# Altium integrated library Converter.IntLib: 33 symbols
Pins are listed as number, name and electrical type; pins without a type are passive.

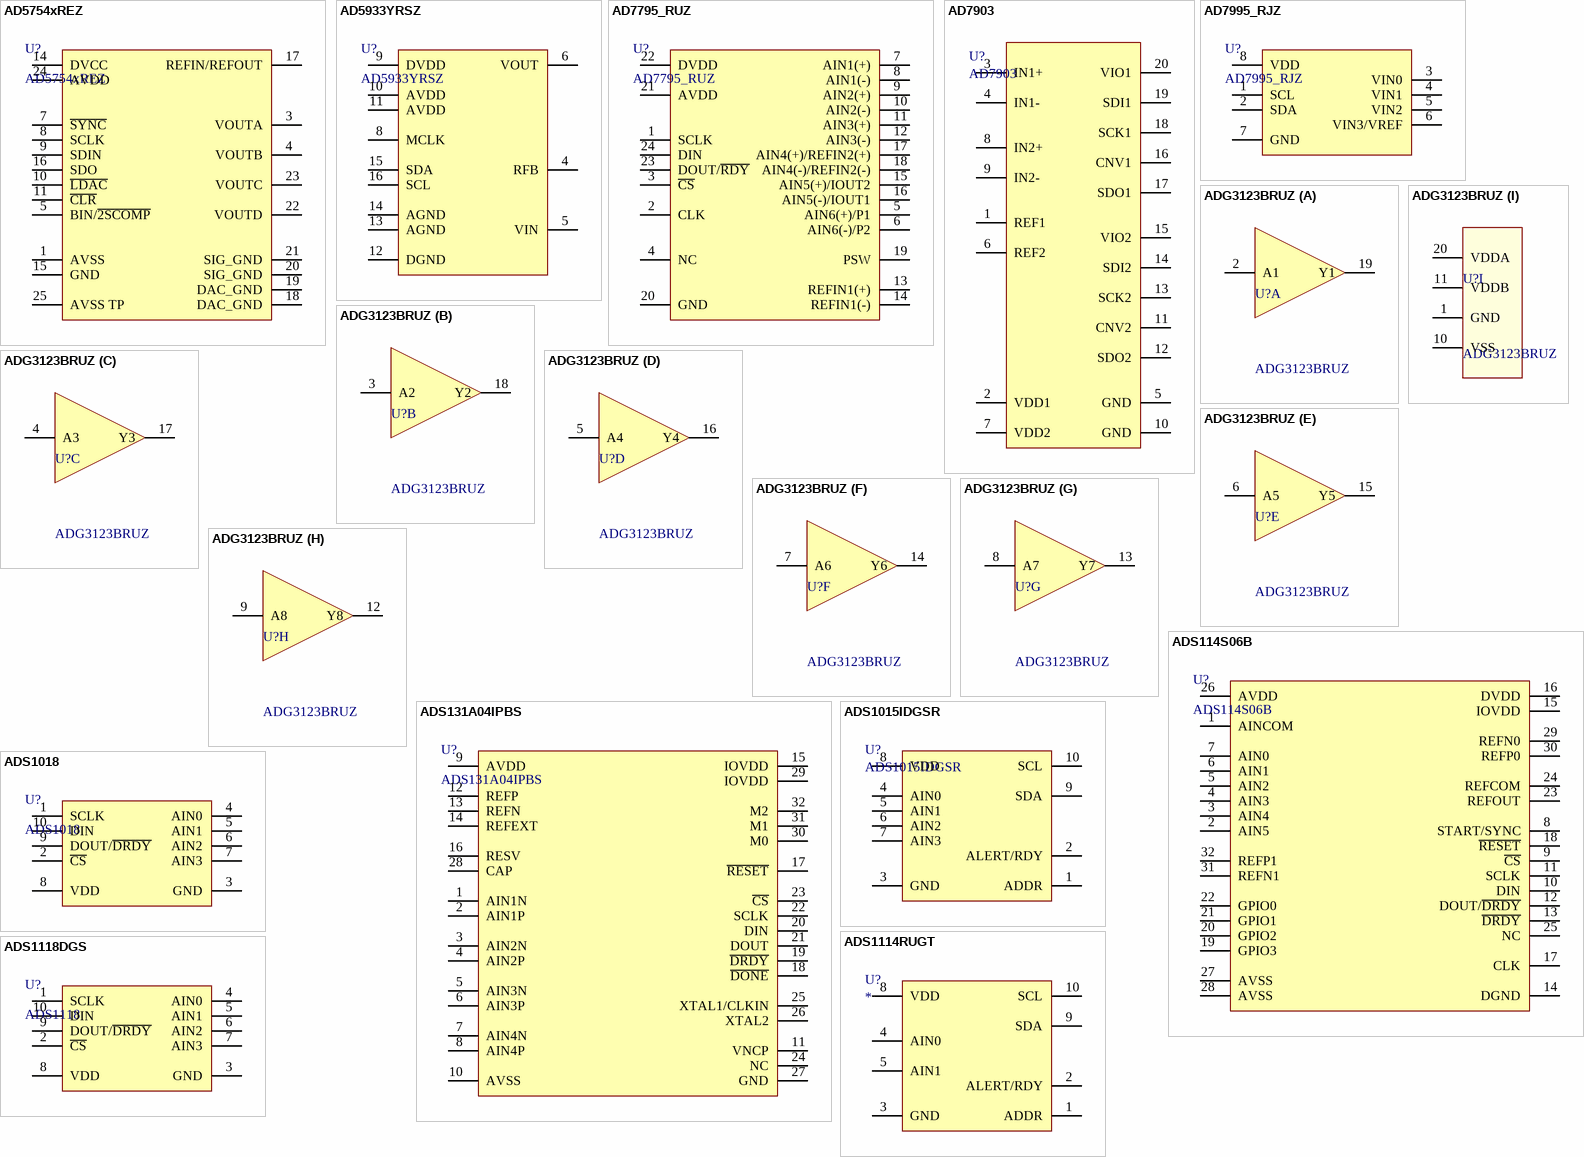
[diagram p0: symbols AD5754xREZ to ADS1118DGS]

## AD5754xREZ
designator U?
Complete, Quad, 12-/14-/16-Bit, Serial Input, Unipolar/Bipolar Voltage Output DACs; Value: AD5754xREZ
footprint TSSOP24 EP P0.65 T3.2x5.0 C4.4x7.8 H1.2 (TSOP, 24-Leads, Body 7.80x4.40mm, Pitch 0.65mm, Thermal Pad 5.00x3.20mm, IPC Medium Density)
pins: 1 AVSS "Serial Clock Input. This serial clock input is for data transfers to and from the ADC. The SCLK has a Schmitttriggered input, making the interface suitable for opto-isolated applications. The serial clock can be continuous (See Datasheet)", 2 NC hidden "Clock In/Clock Out. The internal clock can be made available at this pin. Alternatively, the internal clock can be disabled, and the ADC can be driven by an external clock. This allows several ADCs to be driven from a common (See Datasheet)", 3 VOUTA "No Connect.", 4 VOUTB "No Connect.", 5 BIN/~{2SCOMP} "Chip Select Input. This is an active low logic input used to select the ADC. C\S\ can be used to select the ADC in systems with more than one device on the serial bus or as a frame synchronization signal in communicating (See Datasheet)", 6 NC hidden "Clock In/Clock Out. The internal clock can be made available at this pin. Alternatively, the internal clock can be disabled, and the ADC can be driven by an external clock. This allows several ADCs to be driven from a common (See Datasheet)", 7 ~{SYNC} "Chip Select Input. This is an active low logic input used to select the ADC. C\S\ can be used to select the ADC in systems with more than one device on the serial bus or as a frame synchronization signal in communicating (See Datasheet)", 8 SCLK "Analog Input. AIN1(-) is the negative terminal of the differential analog input pair, AIN1(+)/AIN1(-).", 9 SDIN "Analog Input. AIN2(+) is the positive terminal of the differential analog input pair, AIN2(+)/AIN2(-).", 10 ~{LDAC} "Chip Select Input. This is an active low logic input used to select the ADC. C\S\ can be used to select the ADC in systems with more than one device on the serial bus or as a frame synchronization signal in communicating (See Datasheet)", 11 ~{CLR} "Chip Select Input. This is an active low logic input used to select the ADC. C\S\ can be used to select the ADC in systems with more than one device on the serial bus or as a frame synchronization signal in communicating (See Datasheet)", 12 NC hidden "Clock In/Clock Out. The internal clock can be made available at this pin. Alternatively, the internal clock can be disabled, and the ADC can be driven by an external clock. This allows several ADCs to be driven from a common (See Datasheet)", 13 NC hidden "Clock In/Clock Out. The internal clock can be made available at this pin. Alternatively, the internal clock can be disabled, and the ADC can be driven by an external clock. This allows several ADCs to be driven from a common (See Datasheet)", 14 DVCC "Clock In/Clock Out. The internal clock can be made available at this pin. Alternatively, the internal clock can be disabled, and the ADC can be driven by an external clock. This allows several ADCs to be driven from a common (See Datasheet)", 15 GND "Ground Reference Point.", 16 SDO "Analog Input/Output of Internal Excitation Current Source. AIN5(-) is the negative terminal of the differential analog input pair, AIN5(+)/AIN5(-). Alternatively, the internal excitation current source can be made available (See Datasheet)", 17 REFIN/REFOUT "Analog Input/Positive Reference Input. AIN4(+) is the positive terminal of the differential analog input pair AIN4(+)/AIN4(-). This pin also functions as a positive reference input for REFIN2. REFIN2(+) can lie anywhere (See Datasheet)", 18 DAC_GND "Analog Input/Negative Reference Input. AIN4(-) is the negative terminal of the differential analog input pair AIN4(+)/AIN4(-). This pin also functions as the negative reference input for REFIN2. This reference input can lie (See Datasheet)", 19 DAC_GND "Analog Input/Negative Reference Input. AIN4(-) is the negative terminal of the differential analog input pair AIN4(+)/AIN4(-). This pin also functions as the negative reference input for REFIN2. This reference input can lie (See Datasheet)", 20 SIG_GND "Supply Voltage, 2.7 V to 5.25 V.", 21 SIG_GND "Supply Voltage, 2.7 V to 5.25 V.", 22 VOUTD "Serial Interface Supply Voltage, 2.7 V to 5.25 V. DVDD is independent of AVDD. Therefore, the serial interface operates at 3 V with AVDD at 5 V or vice versa.", 23 VOUTC "Serial Data Output/Data Ready Output. DOUT/R\D\Y\ serves a dual purpose. It functions as a serial data output pin to access the output shift register of the ADC. The output shift register can contain data from any of the (See Datasheet)", 24 AVDD "Serial Data Input to the Input Shift Register on the ADC. Data in this shift register is transferred to the control registers within the ADC with the register selection bits of the communications register identifying the (See Datasheet)", 25 AVSS TP "Low-Side Power Switch to GND."

## AD5933YRSZ
designator U?
1 MSPS, 12-Bit Impedance  Converter, Network Analyzer; Value: AD5933YRSZ
footprint TSSOP16 P0.65 C5.6x6.2 H2.0 (SOP, 16-Leads, Body 6.05x5.30mm, Pitch 0.65mm, IPC Medium Density)
pins: 4 RFB "No Connect.", 5 VIN "Analog Input/Digital Output Pin. AIN6(+) is the positive terminal of the differential analog input pair, AIN6(+)/AIN6(-). This pin can also function as a general-purpose output bit referenced between AVDD and GND.", 6 VOUT "Analog Input/Digital Output Pin. AIN6(-) is the negative terminal of the differential analog input pair, AIN6(+)/AIN6(-). This pin can also function as a general-purpose output bit referenced between AVDD and GND.", 8 MCLK "Analog Input. AIN1(-) is the negative terminal of the differential analog input pair, AIN1(+)/AIN1(-).", 9 DVDD "Serial Interface Supply Voltage, 2.7 V to 5.25 V. DVDD is independent of AVDD. Therefore, the serial interface operates at 3 V with AVDD at 5 V or vice versa.", 10 AVDD "Supply Voltage, 2.7 V to 5.25 V.", 11 AVDD "Supply Voltage, 2.7 V to 5.25 V.", 12 DGND "Serial Clock Input. This serial clock input is for data transfers to and from the ADC. The SCLK has a Schmitttriggered input, making the interface suitable for opto-isolated applications. The serial clock can be continuous (See Datasheet)", 13 AGND "Serial Clock Input. This serial clock input is for data transfers to and from the ADC. The SCLK has a Schmitttriggered input, making the interface suitable for opto-isolated applications. The serial clock can be continuous (See Datasheet)", 14 AGND "Serial Clock Input. This serial clock input is for data transfers to and from the ADC. The SCLK has a Schmitttriggered input, making the interface suitable for opto-isolated applications. The serial clock can be continuous (See Datasheet)", 15 SDA "Serial Clock Input. This serial clock input is for data transfers to and from the ADC. The SCLK has a Schmitttriggered input, making the interface suitable for opto-isolated applications. The serial clock can be continuous (See Datasheet)", 16 SCL "Serial Clock Input. This serial clock input is for data transfers to and from the ADC. The SCLK has a Schmitttriggered input, making the interface suitable for opto-isolated applications. The serial clock can be continuous (See Datasheet)"

## AD7795_RUZ
designator U?
6-Channel, Low Noise, Low Power, 24-/16-Bit  Σ-Δ ADC; Value: AD7795_RUZ
footprint TSSOP24 P0.65 C4.4X7.8 H1.2 (TSOP, 24-Leads, Body 7.8x4.4mm, Pitch 0.65mm, IPC Medium Density)
pins: 1 SCLK "Serial Clock Input. This serial clock input is for data transfers to and from the ADC. The SCLK has a Schmitttriggered input, making the interface suitable for opto-isolated applications. The serial clock can be continuous (See Datasheet)", 2 CLK "Clock In/Clock Out. The internal clock can be made available at this pin. Alternatively, the internal clock can be disabled, and the ADC can be driven by an external clock. This allows several ADCs to be driven from a common (See Datasheet)", 3 ~{CS} "Chip Select Input. This is an active low logic input used to select the ADC. C\S\ can be used to select the ADC in systems with more than one device on the serial bus or as a frame synchronization signal in communicating (See Datasheet)", 4 NC "No Connect.", 5 AIN6(+)/P1 "Analog Input/Digital Output Pin. AIN6(+) is the positive terminal of the differential analog input pair, AIN6(+)/AIN6(-). This pin can also function as a general-purpose output bit referenced between AVDD and GND.", 6 AIN6(-)/P2 "Analog Input/Digital Output Pin. AIN6(-) is the negative terminal of the differential analog input pair, AIN6(+)/AIN6(-). This pin can also function as a general-purpose output bit referenced between AVDD and GND.", 7 AIN1(+) "Analog Input. AIN1(+) is the positive terminal of the differential analog input pair, AIN1(+)/AIN1(-).", 8 AIN1(-) "Analog Input. AIN1(-) is the negative terminal of the differential analog input pair, AIN1(+)/AIN1(-).", 9 AIN2(+) "Analog Input. AIN2(+) is the positive terminal of the differential analog input pair, AIN2(+)/AIN2(-).", 10 AIN2(-) "Analog Input. AIN2(-) is the negative terminal of the differential analog input pair, AIN2(+)/AIN2(-).", 11 AIN3(+) "Analog Input. AIN3(+) is the positive terminal of the differential analog input pair, AIN3(+)/AIN3(-).", 12 AIN3(-) "Analog Input. AIN3(-) is the negative terminal of the differential analog input pair, AIN3(+)/AIN3(-).", 13 REFIN1(+) "Positive Reference Input. An external reference can be applied between REFIN1(+) and REFIN1(-). REFIN1(+) can lie anywhere between AVDD and GND + 0.1 V. The nominal reference voltage, (REFIN1(+) - REFIN1(-)), is 2.5 V, but (See Datasheet)", 14 REFIN1(-) "Negative Reference Input. This reference input can lie anywhere between GND and AVDD - 0.1 V.", 15 AIN5(+)/IOUT2 "Analog Input/Output of Internal Excitation Current Source. AIN5(+) is the positive terminal of the differential analog input pair AIN5(+)/AIN5(-). Alternatively, the internal excitation current source can be made available (See Datasheet)", 16 AIN5(-)/IOUT1 "Analog Input/Output of Internal Excitation Current Source. AIN5(-) is the negative terminal of the differential analog input pair, AIN5(+)/AIN5(-). Alternatively, the internal excitation current source can be made available (See Datasheet)", 17 AIN4(+)/REFIN2(+) "Analog Input/Positive Reference Input. AIN4(+) is the positive terminal of the differential analog input pair AIN4(+)/AIN4(-). This pin also functions as a positive reference input for REFIN2. REFIN2(+) can lie anywhere (See Datasheet)", 18 AIN4(-)/REFIN2(-) "Analog Input/Negative Reference Input. AIN4(-) is the negative terminal of the differential analog input pair AIN4(+)/AIN4(-). This pin also functions as the negative reference input for REFIN2. This reference input can lie (See Datasheet)", 19 PSW "Low-Side Power Switch to GND.", 20 GND "Ground Reference Point.", 21 AVDD "Supply Voltage, 2.7 V to 5.25 V.", 22 DVDD "Serial Interface Supply Voltage, 2.7 V to 5.25 V. DVDD is independent of AVDD. Therefore, the serial interface operates at 3 V with AVDD at 5 V or vice versa.", 23 DOUT/~{RDY} "Serial Data Output/Data Ready Output. DOUT/R\D\Y\ serves a dual purpose. It functions as a serial data output pin to access the output shift register of the ADC. The output shift register can contain data from any of the (See Datasheet)", 24 DIN "Serial Data Input to the Input Shift Register on the ADC. Data in this shift register is transferred to the control registers within the ADC with the register selection bits of the communications register identifying the (See Datasheet)"

## AD7903
designator U?
Dual Differential 16-Bit, 1 MSPS  PulSAR ADC 12.0 mW in QSOP; Value: AD7903
footprint SO20 P0.635 C4.0X8.8 H1.75 (SOP, 20-Leads, Body 8.8x4.0mm, Pitch 0.635mm, IPC Medium Density)
pins: 1 REF1, 2 VDD1, 3 IN1+, 4 IN1-, 5 GND, 6 REF2, 7 VDD2, 8 IN2+, 9 IN2-, 10 GND, 11 CNV2, 12 SDO2, 13 SCK2, 14 SDI2, 15 VIO2, 16 CNV1, 17 SDO1, 18 SCK1, 19 SDI1, 20 VIO1

## AD7995_RJZ
designator U?
4-Channel, 12-/10-/8-Bit ADC; Value: AD7995_RJZ
footprint SOT23-8 P0.65 C1.6x3.0 H1.5 (SOT23, 8-Leads, Body 1.6x3.0mm, Pitch 0.65mm, IPC Medium Density)
pins: 1 SCL "Serial Clock Input. This serial clock input is for data transfers to and from the ADC. The SCLK has a Schmitttriggered input, making the interface suitable for opto-isolated applications. The serial clock can be continuous (See Datasheet)", 2 SDA "Clock In/Clock Out. The internal clock can be made available at this pin. Alternatively, the internal clock can be disabled, and the ADC can be driven by an external clock. This allows several ADCs to be driven from a common (See Datasheet)", 3 VIN0 "Chip Select Input. This is an active low logic input used to select the ADC. C\S\ can be used to select the ADC in systems with more than one device on the serial bus or as a frame synchronization signal in communicating (See Datasheet)", 4 VIN1 "No Connect.", 5 VIN2 "Analog Input/Digital Output Pin. AIN6(+) is the positive terminal of the differential analog input pair, AIN6(+)/AIN6(-). This pin can also function as a general-purpose output bit referenced between AVDD and GND.", 6 VIN3/VREF "Analog Input/Digital Output Pin. AIN6(-) is the negative terminal of the differential analog input pair, AIN6(+)/AIN6(-). This pin can also function as a general-purpose output bit referenced between AVDD and GND.", 7 GND "Ground Reference Point.", 8 VDD "Serial Interface Supply Voltage, 2.7 V to 5.25 V. DVDD is independent of AVDD. Therefore, the serial interface operates at 3 V with AVDD at 5 V or vice versa."

## ADG3123BRUZ
designator U?
8-Channel CMOS Logic to  High Voltage Level Translator; Value: ADG3123BRUZ
footprint TSSOP20 P0.65 C6.6X4.4 H1.2 (TSOP, 20-Leads, Body 6.60x4.40mm, Pitch 0.65mm, IPC Medium Density)
part A pins: 2 A1, 19 Y1
part B pins: 3 A2, 18 Y2
part C pins: 4 A3, 17 Y3
part D pins: 5 A4, 16 Y4
part E pins: 6 A5, 15 Y5
part F pins: 7 A6, 14 Y6
part G pins: 8 A7, 13 Y7
part H pins: 9 A8, 12 Y8
part I pins: 1 GND, 10 VSS, 11 VDDB, 20 VDDA

## ADS114S06B
designator U?
ADS114S0xB Low-Power, Low-Noise, Highly Integrated, 6- and 12-Channel, 4-kSPS, 16-Bit, Delta-Sigma ADC With PGA and Voltage Reference; Manufacturer: Texas Instruments; Value: ADS114S06B; Mouser No.: 595-ADS114S06BIPBS
footprint QFP32 P0.5 T7.0X7.0 C5.0X5.0 H1.2 (TSQFP, 32-Leads, Body 5.00x5.00mm, Pitch 0.50mm, IPC Medium Density)
pins: 1 AINCOM "Serial data input", 2 AIN5 "Chip select; active low", 3 AIN4 "Chip select; active low", 4 AIN3 "Chip select; active low", 5 AIN2 "Chip select; active low", 6 AIN1 "Chip select; active low", 7 AIN0 "Serial data out combined with data ready; active low", 8 START/SYNC "Ground", 9 ~{CS} "Ground", 10 DIN "Ground", 11 SCLK "Ground", 12 DOUT/~{DRDY} "Ground", 13 ~{DRDY} "Ground", 14 DGND "Ground", 15 IOVDD "Ground", 16 DVDD "Ground", 17 CLK "Ground", 18 ~{RESET} "Ground", 19 GPIO3 "Chip select; active low", 20 GPIO2 "Chip select; active low", 21 GPIO1 "Chip select; active low", 22 GPIO0 "Chip select; active low", 23 REFOUT "Differential channel 2: negative input or single-ended channel 4 input", 24 REFCOM "Differential channel 2: positive input or single-ended channel 3 input", 25 NC "Ground", 26 AVDD "Serial clock input", 27 AVSS "Power supply: 2.0 V to 5.5 V", 28 AVSS "Power supply: 2.0 V to 5.5 V", 29 REFN0 "Differential channel 1: positive input or single-ended channel 1 input", 30 REFP0 "Differential channel 1: negative input or single-ended channel 2 input", 31 REFN1 "Chip select; active low", 32 REFP1 "Chip select; active low"

## ADS131A04IPBS
designator U?
2- or 4-Channel, 24-Bit, 128-kSPS, Simultaneous-Sampling, Delta-Sigma ADC; Manufacturer: Texas Instruments; Value: ADS131A04IPBS; Mouser No.: 595-ADS131A04IPBS
footprint QFP32 P0.5 T7.0X7.0 C5.0X5.0 H1.2 (TSQFP, 32-Leads, Body 5.00x5.00mm, Pitch 0.50mm, IPC Medium Density)
pins: 1 AIN1N "Serial data input", 2 AIN1P "Chip select; active low", 3 AIN2N "Chip select; active low", 4 AIN2P "Chip select; active low", 5 AIN3N "Chip select; active low", 6 AIN3P "Chip select; active low", 7 AIN4N "Serial data out combined with data ready; active low", 8 AIN4P "Ground", 9 AVDD "Serial clock input", 10 AVSS "Power supply: 2.0 V to 5.5 V", 11 VNCP "Ground", 12 REFP "Ground", 13 REFN "Ground", 14 REFEXT "Ground", 15 IOVDD "Ground", 16 RESV "Ground", 17 ~{RESET} "Ground", 18 ~{DONE} "Ground", 19 ~{DRDY} "Chip select; active low", 20 DIN "Chip select; active low", 21 DOUT "Ground", 22 SCLK "Chip select; active low", 23 ~{CS} "Ground", 24 NC "Ground", 25 XTAL1/CLKIN "Differential channel 2: negative input or single-ended channel 4 input", 26 XTAL2 "Differential channel 2: positive input or single-ended channel 3 input", 27 GND "Power supply: 2.0 V to 5.5 V", 28 CAP "Chip select; active low", 29 IOVDD "Differential channel 1: positive input or single-ended channel 1 input", 30 M0 "Differential channel 1: negative input or single-ended channel 2 input", 31 M1 "Chip select; active low", 32 M2 "Chip select; active low"

## ADS1015IDGSR
designator U?
Ultra-Small, Low-Power, I2C-Compatible, 3.3-kSPS, 12-Bit ADCs; Value: ADS1015IDGSR
footprint VSSOP10 P0.5 C3.1X3.1 H1.1 (VSSOP, 10-Leads, Body 3.10x3.1mm, Pitch 0.5mm, Height 1.1)
pins: 1 ADDR, 2 ALERT/RDY, 3 GND, 4 AIN0, 5 AIN1, 6 AIN2, 7 AIN3, 8 VDD, 9 SDA, 10 SCL

## ADS1018
designator U?
Ultrasmall, Low-Power, SPI™-Compatible, 12-Bit,  Analog-to-Digital Converter; Value: ADS1018
footprint VSSOP10 P0.5 C3.1X3.1 H1.1
pins: 1 SCLK "Serial clock input", 2 ~{CS} "Chip select; active low", 3 GND "Ground", 4 AIN0 "Differential channel 1: positive input or single-ended channel 1 input", 5 AIN1 "Differential channel 1: negative input or single-ended channel 2 input", 6 AIN2 "Differential channel 2: positive input or single-ended channel 3 input", 7 AIN3 "Differential channel 2: negative input or single-ended channel 4 input", 8 VDD "Power supply: 2.0 V to 5.5 V", 9 DOUT/~{DRDY} "Serial data out combined with data ready; active low", 10 DIN "Serial data input"

## ADS1114RUGT
designator U?
Ultra-Small, Low-Power, 16-Bit  Analog-to-Digital Converter; Value: ADS1114RUGT
footprint QFN10 P0.5 C1.5X2.0 H0.4 (PQFN, 10-Leads, Body 1.50x2.00mm, Pitch 0.50mm, IPC High Density)
pins: 1 ADDR, 2 ALERT/RDY, 3 GND, 4 AIN0, 5 AIN1, 8 VDD, 9 SDA, 10 SCL

## ADS1118DGS
designator U?, comment ADS1118
ADS1118 Ultrasmall, Low-Power, SPI™-Compatible, 16-Bit / Analog-to-Digital Converter; Value: ADS1118
footprint VSSOP10 P0.5 C3.1X3.1 H1.1
pins: 1 SCLK "Serial clock input", 2 ~{CS} "Chip select; active low", 3 GND "Ground", 4 AIN0 "Differential channel 1: positive input or single-ended channel 1 input", 5 AIN1 "Differential channel 1: negative input or single-ended channel 2 input", 6 AIN2 "Differential channel 2: positive input or single-ended channel 3 input", 7 AIN3 "Differential channel 2: negative input or single-ended channel 4 input", 8 VDD "Power supply: 2.0 V to 5.5 V", 9 DOUT/~{DRDY} "Serial data out combined with data ready; active low", 10 DIN "Serial data input"

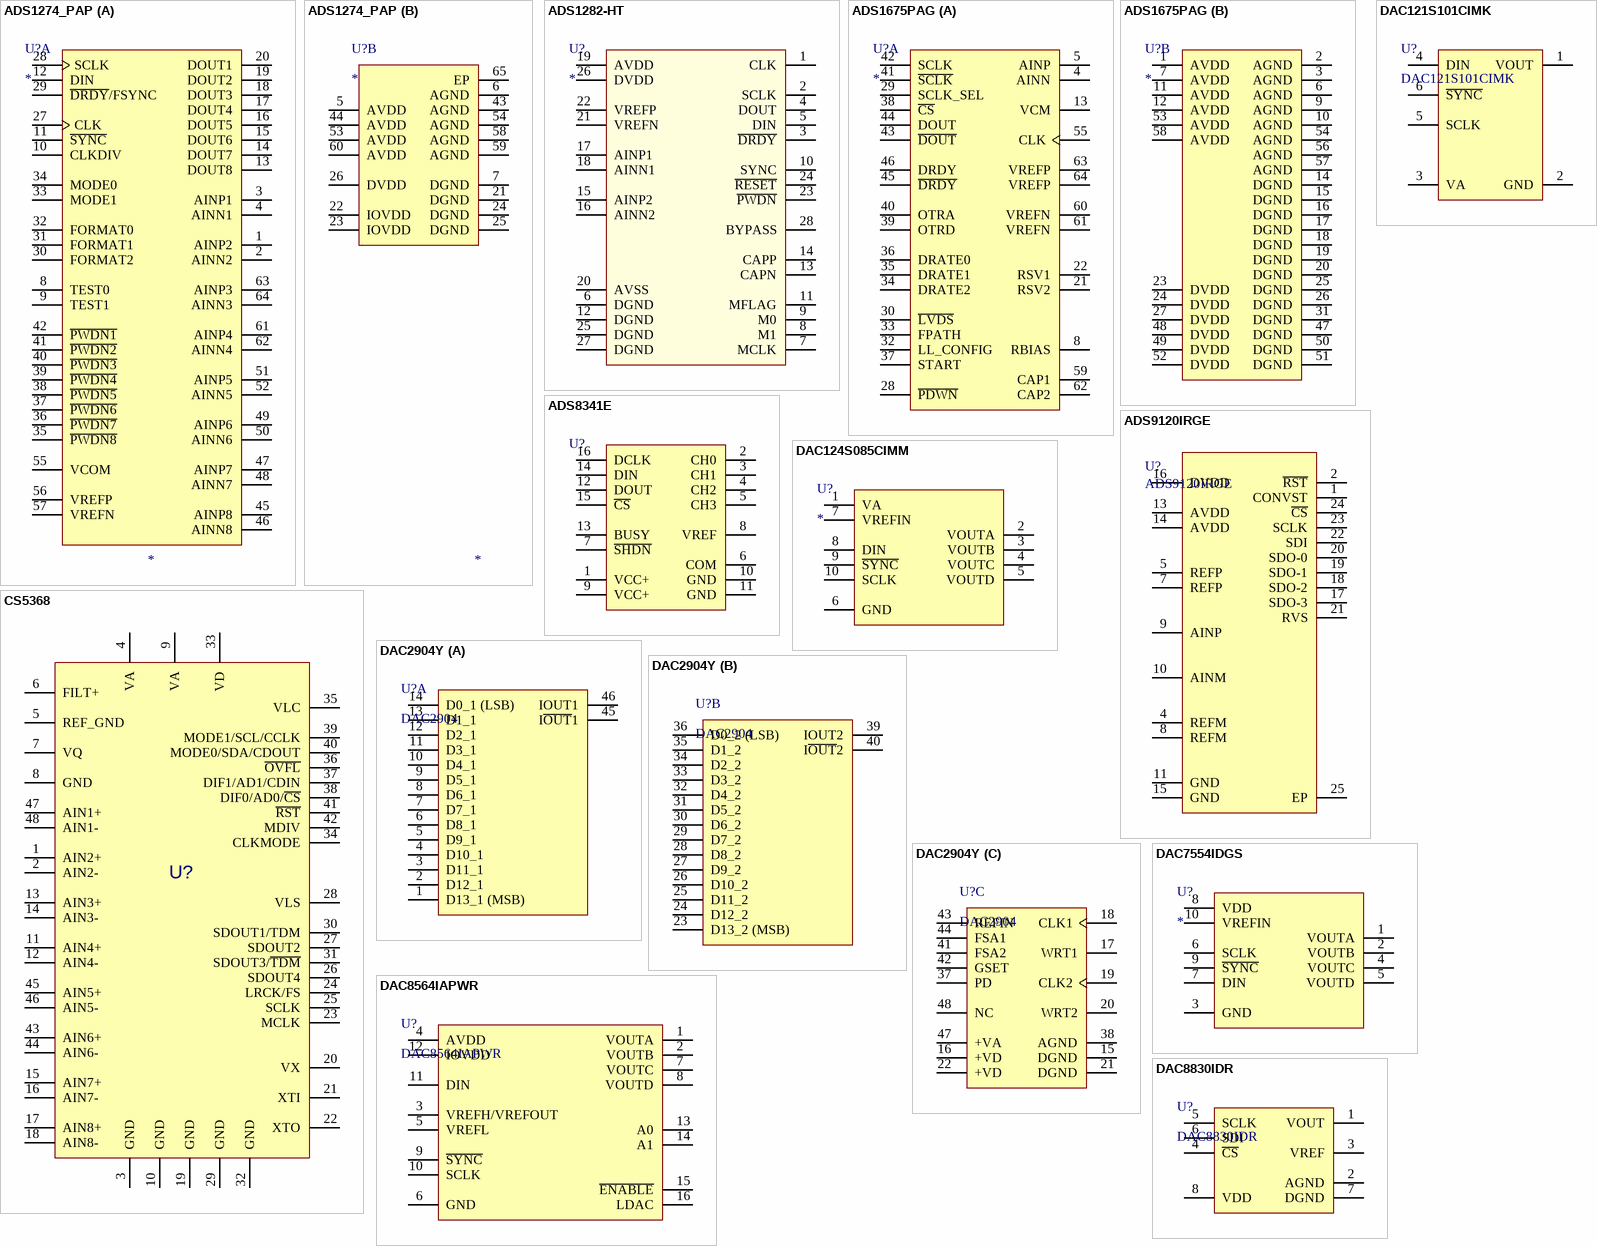
[diagram p1: symbols ADS1274_PAP to DAC8830IDR]

## ADS1274_PAP
designator U?
Quad/Octal, Simultaneous Sampling, 24-Bit Analog-to-Digital Converters; Value: *
footprint QFN64 P0.5 T7.0x7.0 C10x10 H1.2 (QFN, 64-Leads, Body 10.00x10.00mm, Pitch 0.50mm, Thermal Pad 7.00x7.00mm, IPC Low Density)
part A pins: 1 AINP2 "AINP[4:1] Positive analog input, channels 4 through 1.", 2 AINN2 "AINN[4:1] Negative analog input, channels 4 through 1.", 3 AINP1 "AINP[4:1] Positive analog input, channels 4 through 1.", 4 AINN1 "AINN[4:1] Negative analog input, channels 4 through 1.", 8 TEST0 "TEST[1:0] Test mode select: 00 = Normal operation 01 = Do not use 11 = Test mode 10 = Do not use", 9 TEST1 "TEST[1:0] Test mode select: 00 = Normal operation 01 = Do not use 11 = Test mode 10 = Do not use", 10 CLKDIV "CLK input divider control:1 = 37MHz (High-Speed mode)/otherwise 27MHz  0 = 13.5MHz (low-power)/5.4MHz (low-speed)", 11 ~{SYNC} "Synchronize input (all channels).", 12 DIN "Daisy-chain data input.", 13 DOUT8 "DOUT[8:5] Internally connected to active circuitry; outputs are driven.", 14 DOUT7 "DOUT[8:5] Internally connected to active circuitry; outputs are driven.", 15 DOUT6 "DOUT[8:5] Internally connected to active circuitry; outputs are driven.", 16 DOUT5 "DOUT[8:5] Internally connected to active circuitry; outputs are driven.", 17 DOUT4 "DOUT[4:1] Data output for channels 4 through 1.", 18 DOUT3 "DOUT[4:1] Data output for channels 4 through 1.", 19 DOUT2 "DOUT[4:1] Data output for channels 4 through 1.", 20 DOUT1 "DOUT[4:1] Data output for channels 4 through 1.", 27 CLK "Master clock input (fCLK).", 28 SCLK "Serial clock input, Modulator clock output", 29 ~{DRDY}/FSYNC "Frame-Sync protocol: frame clock input; SPI protocol: data ready output.", 30 FORMAT2 "FORMAT[2:0] Selects Frame-Sync/SPI protocol, TDM/discrete data outputs, fixed/dynamic position TDM data, and modulator mode/normal operating mode.", 31 FORMAT1 "FORMAT[2:0] Selects Frame-Sync/SPI protocol, TDM/discrete data outputs, fixed/dynamic position TDM data, and modulator mode/normal operating mode.", 32 FORMAT0 "FORMAT[2:0] Selects Frame-Sync/SPI protocol, TDM/discrete data outputs, fixed/dynamic position TDM data, and modulator mode/normal operating mode.", 33 MODE1 "MODE[1:0] Selects High-Speed, High-Resolution, Low-Power, or Low-Speed mode operation.", 34 MODE0 "MODE[1:0] Selects High-Speed, High-Resolution, Low-Power, or Low-Speed mode operation.", 35 ~{PWDN8} "P\W\D\N\[8:5] must = 0V", 36 ~{PWDN7} "P\W\D\N\[8:5] must = 0V", 37 ~{PWDN6} "P\W\D\N\[8:5] must = 0V", 38 ~{PWDN5} "P\W\D\N\[8:5] must = 0V", 39 ~{PWDN4} "P\W\D\N\[4:1] Power-down control for channels 4 through 1.", 40 ~{PWDN3} "P\W\D\N\[4:1] Power-down control for channels 4 through 1.", 41 ~{PWDN2} "P\W\D\N\[4:1] Power-down control for channels 4 through 1.", 42 ~{PWDN1} "P\W\D\N\[4:1] Power-down control for channels 4 through 1.", 45 AINP8 "AINP[8:5] Connected to internal ESD rails. The inputs may float", 46 AINN8 "AINN[8:5] Connected to internal ESD rails. The inputs may float", 47 AINP7 "AINP[8:5] Connected to internal ESD rails. The inputs may float", 48 AINN7 "AINN[8:5] Connected to internal ESD rails. The inputs may float", 49 AINP6 "AINP[8:5] Connected to internal ESD rails. The inputs may float", 50 AINN6 "AINN[8:5] Connected to internal ESD rails. The inputs may float", 51 AINP5 "AINP[8:5] Connected to internal ESD rails. The inputs may float", 52 AINN5 "AINN[8:5] Connected to internal ESD rails. The inputs may float", 55 VCOM "AVDD/2 Unbuffered voltage output.", 56 VREFP "Positive reference input.", 57 VREFN "Negative reference input.", 61 AINP4 "AINP[4:1] Positive analog input, channels 4 through 1.", 62 AINN4 "AINN[4:1] Negative analog input, channels 4 through 1.", 63 AINP3 "AINP[4:1] Positive analog input, channels 4 through 1.", 64 AINN3 "AINN[4:1] Negative analog input, channels 4 through 1."
part B pins: 5 AVDD "Analog power supply (4.75V to 5.25V).", 6 AGND "Analog ground; connect to DGND using a single plane.", 7 DGND "Digital ground power supply.", 21 DGND "Digital ground power supply.", 22 IOVDD "I/O power supply (+1.65V to +3.6V)", 23 IOVDD "I/O power supply (+1.65V to +3.6V)", 24 DGND "Digital ground power supply.", 25 DGND "Digital ground power supply.", 26 DVDD "Digital core power supply", 43 AGND "Analog ground; connect to DGND using a single plane.", 44 AVDD "Analog power supply (4.75V to 5.25V).", 53 AVDD "Analog power supply (4.75V to 5.25V).", 54 AGND "Analog ground; connect to DGND using a single plane.", 58 AGND "Analog ground; connect to DGND using a single plane.", 59 AGND "Analog ground; connect to DGND using a single plane.", 60 AVDD "Analog power supply (4.75V to 5.25V).", 65 EP

## ADS1282-HT
designator U?
High-Temperature High-Resolution Delta Sigma ADC; value: *
footprint TSSOP28 P0.65 C6.6x9.8 H1.2 (TSSOP28 P 0.65mm B 6.6x9.8mm H 1.2mm)
pins: 1 CLK, 2 SCLK, 3 ~{DRDY}, 4 DOUT, 5 DIN, 6 DGND, 7 MCLK, 8 M1, 9 M0, 10 SYNC, 11 MFLAG, 12 DGND, 13 CAPN, 14 CAPP, 15 AINP2, 16 AINN2, 17 AINP1, 18 AINN1, 19 AVDD, 20 AVSS, 21 VREFN, 22 VREFP, 23 ~{PWDN}, 24 ~{RESET}, 25 DGND, 26 DVDD, 27 DGND, 28 BYPASS

## ADS1675PAG
designator U?
4MSPS, 24-Bit Analog-to-Digital Converter; Value: *
footprint LQFP64 P0.5 C10.0x10.0 H1.6 (Thin QFP, 64-Leads, Body 10x10mm, Pitch 0.5mm, IPC Medium Density)
part A pins: 4 AINN "Negative analog input", 5 AINP "Positive analog input", 8 RBIAS "Analog bias setting resistor", 13 VCM "Terminal for external bypass capacitor connection to internal common-mode voltage", 21 RSV2 "Short pin to digital ground", 22 RSV1 "Short pin to digital supply", 28 ~{PDWN} "Power-down control, active low", 29 SCLK_SEL "Shift-clock source select. If SCLK_SEL = '0', then SCLK is internally generated. If SCLK_SEL = '1', then SCLK must be externally generated.", 30 ~{LVDS} "Serial interface select. If L\V\D\S\ = '0', then interface is LVDS-compatible. If L\V\D\S\ = '1', then interface is CMOS-compatible.", 32 LL_CONFIG "Configure Low-Latency digital filter. If LL_CONFIG = '0', then single-cycle settling is selected. If LL_CONFIG = '1', then fast-response is selected.", 33 FPATH "Digital filter path selection. If FPATH = '0', then path is Wide Bandwidth. If FPATH = '1', then path is Low-Latency.", 34 DRATE2 "Data rate selection", 35 DRATE1 "Data rate selection", 36 DRATE0 "Data rate selection", 37 START "Start convert, reset, and synchronization control input", 38 ~{CS} "Chip select; active low", 39 OTRD "Digital filter out-of-range indicator", 40 OTRA "Analog input out-of-range indicator", 41 ~{SCLK} "Negative shift clock output. If SCLK_SEL = '0', then S\C\L\K\ is the complementary shift clock output. If SCLK_SEL = '1', then S\C\L\K\ always output is 3-state.", 42 SCLK "Positive shift clock output. If SCLK_SEL = '0', then SCLK is an output. If SCLK_SEL = '1', then SCLK is an input.", 43 ~{DOUT} "Negative LVDS serial data output", 44 DOUT "Positive LVDS serial data output", 45 ~{DRDY} "Negative data ready output", 46 DRDY "Positive data ready output", 55 CLK "Master clock input", 59 CAP1 "Terminal for 1uF external bypass capacitor", 60 VREFN "Negative reference voltage. Short to analog ground", 61 VREFN "Negative reference voltage. Short to analog ground", 62 CAP2 "Terminal for 1uF external bypass capacitor", 63 VREFP "Positive reference voltage", 64 VREFP "Positive reference voltage"
part B pins: 1 AVDD "Analog supply", 2 AGND "Analog ground", 3 AGND "Analog ground", 6 AGND "Analog ground", 7 AVDD "Analog supply", 9 AGND "Analog ground", 10 AGND "Analog ground", 11 AVDD "Analog supply", 12 AVDD "Analog supply", 14 DGND "Digital ground", 15 DGND "Digital ground", 16 DGND "Digital ground", 17 DGND "Digital ground", 18 DGND "Digital ground", 19 DGND "Digital ground", 20 DGND "Digital ground", 23 DVDD "Digital supply", 24 DVDD "Digital supply", 25 DGND "Digital ground", 26 DGND "Digital ground", 27 DVDD "Digital supply", 31 DGND "Digital ground", 47 DGND "Digital ground", 48 DVDD "Digital supply", 49 DVDD "Digital supply", 50 DGND "Digital ground", 51 DGND "Digital ground", 52 DVDD "Digital supply", 53 AVDD "Analog supply", 54 AGND "Analog ground", 56 AGND "Analog ground", 57 AGND "Analog ground", 58 AVDD "Analog supply"

## ADS8341E
designator U?
16-bit sampling Analog-to-Digital converter (A/D) with a synchronous serial interface; Value: ADS8341E
footprint SSOP16 P0.635 C5.0x4.0 H1.8 (SSOP16 FTDI)
pins: 1 VCC+ "Power Supply, 2.7V to 5V", 2 CH0 "Analog Input Channel 0", 3 CH1 "Analog Input Channel 1", 4 CH2 "Analog Input Channel 2", 5 CH3 "Analog Input Channel 3", 6 COM "Ground Reference for Analog Inputs. Sets zero code voltage in single-ended mode. Connect this pin to ground or ground reference point.", 7 ~{SHDN} "Shutdown. When LOW, the device enters a very low power shutdown mode.", 8 VREF "Voltage Reference Input. See Electrical Characteristics Table for ranges.", 9 VCC+ "Power Supply, 2.7V to 5V", 10 GND "Ground. Connect to Analog Ground", 11 GND "Ground. Connect to Analog Ground.", 12 DOUT "Serial Data Output. Data is shifted on the falling edge of DCLK. This output is high impedance when C\S\ is HIGH.", 13 BUSY "Busy Output. This output is high impedance when C\S\ is HIGH.", 14 DIN "Serial Data Input. If C\S\ is LOW, data is latched on rising edge of DCLK.", 15 ~{CS} "Chip Select Input. Controls conversion timing and enables the serial input/output register.", 16 DCLK "External Clock Input. This clock runs the SAR conversion process and synchronizes serial data I/O. Maximum input clock frequency equals 2.4MHz to achieve 100kHz sampling rate."

## ADS9120IRGE
designator U?
Dual Differential 16-Bit, 1 MSPS  PulSAR ADC 12.0 mW in QSOP; Value: ADS9120IRGE
footprint QFN24 P0.5 T2.45X2.45 C4.0X4.0 H1.0 (QFN, 24-Leads, Body 4x4mm, Pitch 0.5mm, Thermal Pad 2.45x2.45mm, TI Recommended)
pins: 1 CONVST, 2 ~{RST}, 4 REFM, 5 REFP, 7 REFP, 8 REFM, 9 AINP, 10 AINM, 11 GND, 13 AVDD, 14 AVDD, 15 GND, 16 DVDD, 17 SDO-3, 18 SDO-2, 19 SDO-1, 20 SDO-0, 21 RVS, 22 SDI, 23 SCLK, 24 ~{CS}, 25 EP

## CS5368
designator U?  (value not drawn)
8-Channel A/D Converter; Value: CS5368
footprint LQFP48 P0.5 C7.0X7.0 H1.6 (TSQFP, 48-Leads, Body 7.00x7.00mm, Pitch 0.50mm, IPC Medium Density)
pins: 1 AIN2+, 2 AIN2-, 3 GND, 4 VA, 5 REF_GND, 6 FILT+, 7 VQ, 8 GND, 9 VA, 10 GND, 11 AIN4+, 12 AIN4-, 13 AIN3+, 14 AIN3-, 15 AIN7+, 16 AIN7-, 17 AIN8+, 18 AIN8-, 19 GND, 20 VX, 21 XTI, 22 XTO, 23 MCLK, 24 LRCK/FS, 25 SCLK, 26 SDOUT4, 27 SDOUT2, 28 VLS, 29 GND, 30 SDOUT1/TDM, 31 SDOUT3/~{TDM}, 32 GND, 33 VD, 34 CLKMODE, 35 VLC, 36 ~{OVFL}, 37 DIF1/AD1/CDIN, 38 DIF0/AD0/~{CS}, 39 MODE1/SCL/CCLK, 40 MODE0/SDA/CDOUT, 41 ~{RST}, 42 MDIV, 43 AIN6+, 44 AIN6-, 45 AIN5+, 46 AIN5-, 47 AIN1+, 48 AIN1-

## DAC121S101CIMK
designator U?
12-Bit Micro Power, RRO Digital-to-Analog Converter; Value: DAC121S101CIMK
footprint SOT23-6 P0.95 C1.5x3.0 H1.3 (SOT23, 6-Leads, Body 1.6x3.0mm, Pitch 0.95mm, IPC Medium Density)
pins: 1 VOUT, 2 GND, 3 VA, 4 DIN, 5 SCLK, 6 ~{SYNC}

## DAC124S085CIMM
designator U?
DAC124S085 12-Bit Micro Power Quad Digital-to-Analog Converter With Rail-to-Rail Output; Value: *
footprint VSSOP10 P0.5 C3.1X3.1 H1.1
pins: 1 VA "Serial Clock Input. This serial clock input is for data transfers to and from the ADC. The SCLK has a Schmitttriggered input, making the interface suitable for opto-isolated applications. The serial clock can be continuous (See Datasheet)", 2 VOUTA "Clock In/Clock Out. The internal clock can be made available at this pin. Alternatively, the internal clock can be disabled, and the ADC can be driven by an external clock. This allows several ADCs to be driven from a common (See Datasheet)", 3 VOUTB "Clock In/Clock Out. The internal clock can be made available at this pin. Alternatively, the internal clock can be disabled, and the ADC can be driven by an external clock. This allows several ADCs to be driven from a common (See Datasheet)", 4 VOUTC "Clock In/Clock Out. The internal clock can be made available at this pin. Alternatively, the internal clock can be disabled, and the ADC can be driven by an external clock. This allows several ADCs to be driven from a common (See Datasheet)", 5 VOUTD "Clock In/Clock Out. The internal clock can be made available at this pin. Alternatively, the internal clock can be disabled, and the ADC can be driven by an external clock. This allows several ADCs to be driven from a common (See Datasheet)", 6 GND "Analog Input/Digital Output Pin. AIN6(-) is the negative terminal of the differential analog input pair, AIN6(+)/AIN6(-). This pin can also function as a general-purpose output bit referenced between AVDD and GND.", 7 VREFIN "Analog Input/Digital Output Pin. AIN6(+) is the positive terminal of the differential analog input pair, AIN6(+)/AIN6(-). This pin can also function as a general-purpose output bit referenced between AVDD and GND.", 8 DIN "Serial Interface Supply Voltage, 2.7 V to 5.25 V. DVDD is independent of AVDD. Therefore, the serial interface operates at 3 V with AVDD at 5 V or vice versa.", 9 ~{SYNC} "No Connect.", 10 SCLK "Chip Select Input. This is an active low logic input used to select the ADC. C\S\ can be used to select the ADC in systems with more than one device on the serial bus or as a frame synchronization signal in communicating (See Datasheet)"

## DAC2904Y
designator U?, comment DAC2904
Dual, 14-Bit, 125MSPS  DIGITAL-TO-ANALOG CONVERTER; Value: DAC2904
footprint LQFP48 P0.5 C7.0X7.0 H1.6 (TSQFP, 48-Leads, Body 7.00x7.00mm, Pitch 0.50mm, IPC Medium Density)
part A pins: 1 D13_1 (MSB) "Data Port DAC1, data bit 13 (MSB).", 2 D12_1 "Data Port DAC1, data bit 12.", 3 D11_1 "Data Port DAC1, data bit 11.", 4 D10_1 "Data Port DAC1, data bit 10.", 5 D9_1 "Data Port DAC1, data bit 9.", 6 D8_1 "Data Port DAC1, data bit 8.", 7 D7_1 "Data Port DAC1, data bit 7.", 8 D6_1 "Data Port DAC1, data bit6.", 9 D5_1 "Data Port DAC1, data bit 5.", 10 D4_1 "Data Port DAC1, data bit 4.", 11 D3_1 "Data Port DAC1, data bit 3.", 12 D2_1 "Data Port DAC1, data bit 2.", 13 D1_1 "Data Port DAC1, data bit 1.", 14 D0_1 (LSB) "Data Port DAC1, data bit 0 (LSB).", 45 I~{OUT}1 "Complementary current output DAC1. Full-scale with all bits of data port 1 low.", 46 IOUT1 "Current output DAC1. Full-scale with all bits of data port 1 high."
part B pins: 23 D13_2 (MSB) "Data Port DAC2, data bit 13 (MSB).", 24 D12_2 "Data Port DAC2, data bit 12.", 25 D11_2 "Data Port DAC2, data bit 11.", 26 D10_2 "Data Port DAC2, data bit 10.", 27 D9_2 "Data Port DAC2, data bit 9.", 28 D8_2 "Data Port DAC2, data bit 8.", 29 D7_2 "Data Port DAC2, data bit 7.", 30 D6_2 "Data Port DAC2, data bit6.", 31 D5_2 "Data Port DAC2, data bit 5.", 32 D4_2 "Data Port DAC2, data bit 4.", 33 D3_2 "Data Port DAC2, data bit 3.", 34 D2_2 "Data Port DAC2, data bit 2.", 35 D1_2 "Data Port DAC2, data bit 1.", 36 D0_2 (LSB) "Data Port DAC2, data bit 0 (LSB).", 39 IOUT2 "Current output DAC2. Full-scale with all bits of data port 2 high.", 40 I~{OUT}2 "Complementary current output DAC2. Full-scale with all bits of data port 2 low."
part C pins: 15 DGND "Digital ground", 16 +VD "Digital supply, +3.0V to +5.5V", 17 WRT1 "DAC1 Input latches write signal", 18 CLK1 "Clock input DAC1", 19 CLK2 "Clock input DAC2", 20 WRT2 "DAC2 Input latches write signal", 21 DGND "Digital ground", 22 +VD "Digital supply, +3.0V to +5.5V", 37 PD "Power-down function control input. H = DAC in power-down mode; L = DAC in normal operation (internal pull-down for default L).", 38 AGND "Analog ground", 41 FSA2 "Full-scale adjust, DAC2. Connect external RSET resistor.", 42 GSET "Gain-setting mode (H = one resistor, L = two resistors)", 43 REFIN "Internal reference voltage output; external reference voltage input. Bypass with 0.1uF capacitor to AGND for internal reference operation.", 44 FSA1 "Full-scale adjust, DAC1. Connect external RSET resistor.", 47 +VA "Analog supply, +3.0V to +5.5V", 48 NC "No connection"

## DAC7554IDGS
designator U?
DAC 12-BIT, QUAD, ULTRALOW GLITCH, VOLTAGE OUTPUT; Value: *
footprint VSSOP10 P0.5 C3.1X3.1 H1.1
pins: 1 VOUTA "Clock In/Clock Out. The internal clock can be made available at this pin. Alternatively, the internal clock can be disabled, and the ADC can be driven by an external clock. This allows several ADCs to be driven from a common (See Datasheet)", 2 VOUTB "Clock In/Clock Out. The internal clock can be made available at this pin. Alternatively, the internal clock can be disabled, and the ADC can be driven by an external clock. This allows several ADCs to be driven from a common (See Datasheet)", 3 GND "Analog Input/Digital Output Pin. AIN6(-) is the negative terminal of the differential analog input pair, AIN6(+)/AIN6(-). This pin can also function as a general-purpose output bit referenced between AVDD and GND.", 4 VOUTC "Clock In/Clock Out. The internal clock can be made available at this pin. Alternatively, the internal clock can be disabled, and the ADC can be driven by an external clock. This allows several ADCs to be driven from a common (See Datasheet)", 5 VOUTD "Clock In/Clock Out. The internal clock can be made available at this pin. Alternatively, the internal clock can be disabled, and the ADC can be driven by an external clock. This allows several ADCs to be driven from a common (See Datasheet)", 6 SCLK "Chip Select Input. This is an active low logic input used to select the ADC. C\S\ can be used to select the ADC in systems with more than one device on the serial bus or as a frame synchronization signal in communicating (See Datasheet)", 7 DIN "Serial Interface Supply Voltage, 2.7 V to 5.25 V. DVDD is independent of AVDD. Therefore, the serial interface operates at 3 V with AVDD at 5 V or vice versa.", 8 VDD "Serial Clock Input. This serial clock input is for data transfers to and from the ADC. The SCLK has a Schmitttriggered input, making the interface suitable for opto-isolated applications. The serial clock can be continuous (See Datasheet)", 9 ~{SYNC} "No Connect.", 10 VREFIN "Analog Input/Digital Output Pin. AIN6(+) is the positive terminal of the differential analog input pair, AIN6(+)/AIN6(-). This pin can also function as a general-purpose output bit referenced between AVDD and GND."

## DAC8564IAPWR
designator U?
DAC 12-BIT, QUAD, ULTRALOW GLITCH, VOLTAGE OUTPUT; Manufacturer: Texas Instruments; Value: DAC8564IAPWR; Mouser No.: 595-DAC8564IAPWR
footprint TSSOP16 P0.65 C5.0x4.5 H1.1 (TSSOP-16 NXP)
pins: 1 VOUTA "Clock In/Clock Out. The internal clock can be made available at this pin. Alternatively, the internal clock can be disabled, and the ADC can be driven by an external clock. This allows several ADCs to be driven from a common (See Datasheet)", 2 VOUTB "Clock In/Clock Out. The internal clock can be made available at this pin. Alternatively, the internal clock can be disabled, and the ADC can be driven by an external clock. This allows several ADCs to be driven from a common (See Datasheet)", 3 VREFH/VREFOUT "Analog Input/Digital Output Pin. AIN6(-) is the negative terminal of the differential analog input pair, AIN6(+)/AIN6(-). This pin can also function as a general-purpose output bit referenced between AVDD and GND.", 4 AVDD "Serial Clock Input. This serial clock input is for data transfers to and from the ADC. The SCLK has a Schmitttriggered input, making the interface suitable for opto-isolated applications. The serial clock can be continuous (See Datasheet)", 5 VREFL "Clock In/Clock Out. The internal clock can be made available at this pin. Alternatively, the internal clock can be disabled, and the ADC can be driven by an external clock. This allows several ADCs to be driven from a common (See Datasheet)", 6 GND "Clock In/Clock Out. The internal clock can be made available at this pin. Alternatively, the internal clock can be disabled, and the ADC can be driven by an external clock. This allows several ADCs to be driven from a common (See Datasheet)", 7 VOUTC "Serial Interface Supply Voltage, 2.7 V to 5.25 V. DVDD is independent of AVDD. Therefore, the serial interface operates at 3 V with AVDD at 5 V or vice versa.", 8 VOUTD "Chip Select Input. This is an active low logic input used to select the ADC. C\S\ can be used to select the ADC in systems with more than one device on the serial bus or as a frame synchronization signal in communicating (See Datasheet)", 9 ~{SYNC} "No Connect.", 10 SCLK "Analog Input/Digital Output Pin. AIN6(+) is the positive terminal of the differential analog input pair, AIN6(+)/AIN6(-). This pin can also function as a general-purpose output bit referenced between AVDD and GND.", 11 DIN "Analog Input/Digital Output Pin. AIN6(+) is the positive terminal of the differential analog input pair, AIN6(+)/AIN6(-). This pin can also function as a general-purpose output bit referenced between AVDD and GND.", 12 IOVDD "Analog Input/Digital Output Pin. AIN6(+) is the positive terminal of the differential analog input pair, AIN6(+)/AIN6(-). This pin can also function as a general-purpose output bit referenced between AVDD and GND.", 13 A0 "Analog Input/Digital Output Pin. AIN6(+) is the positive terminal of the differential analog input pair, AIN6(+)/AIN6(-). This pin can also function as a general-purpose output bit referenced between AVDD and GND.", 14 A1 "Analog Input/Digital Output Pin. AIN6(+) is the positive terminal of the differential analog input pair, AIN6(+)/AIN6(-). This pin can also function as a general-purpose output bit referenced between AVDD and GND.", 15 ~{ENABLE} "Analog Input/Digital Output Pin. AIN6(+) is the positive terminal of the differential analog input pair, AIN6(+)/AIN6(-). This pin can also function as a general-purpose output bit referenced between AVDD and GND.", 16 LDAC "Analog Input/Digital Output Pin. AIN6(+) is the positive terminal of the differential analog input pair, AIN6(+)/AIN6(-). This pin can also function as a general-purpose output bit referenced between AVDD and GND."

## DAC8830IDR
designator U?
16-Bit, Ultra-Low Power, Voltage-Output  Digital-to-Analog Converters; Value: DAC8830IDR
footprint SO8 P1.27 C4.0X5.0 H1.75 (8-Pin Small Outline Integrated Circuit 1.27 mm Pitch, IPC Medium Density)
pins: 1 VOUT "Analog output of DAC", 2 AGND "Analog ground", 3 VREF "Voltage reference input", 4 ~{CS} "Chip select input (active low). Data are not clocked into SDI unless C\S\ is low", 5 SCLK "Serial clock input", 6 SDI "Serial data input. Data are latched into input register on the rising edge of SCLK.", 7 DGND "Digital ground", 8 VDD "Analog power supply, +3 V to +5 V"

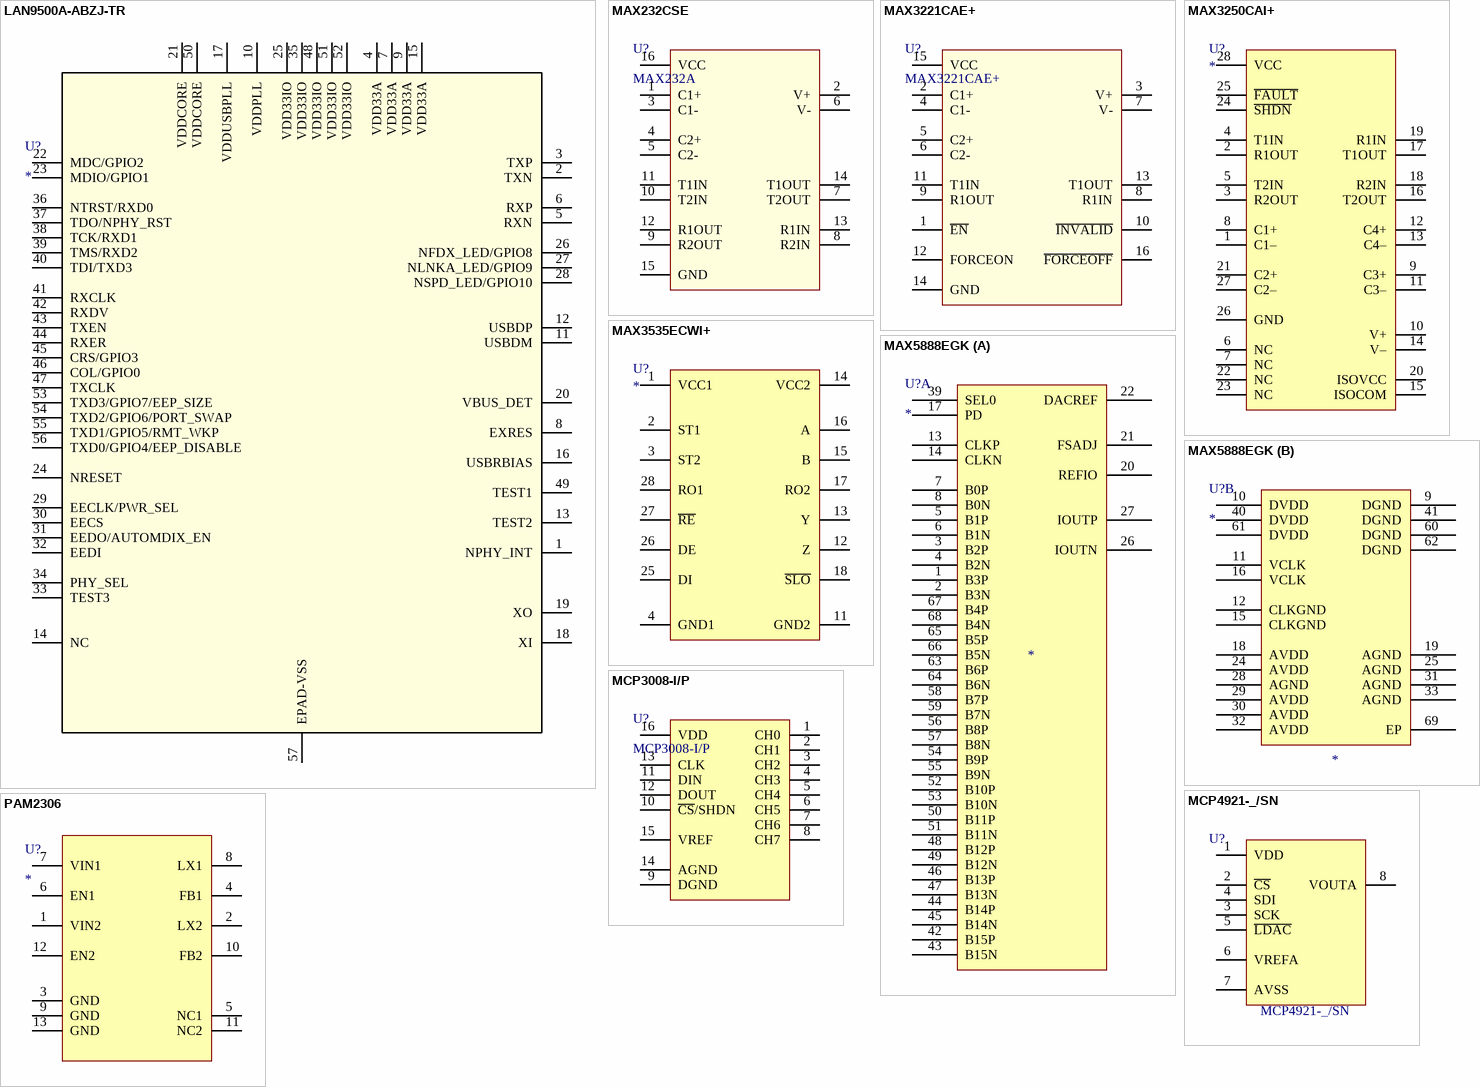
[diagram p2: symbols LAN9500A-ABZJ-TR to PAM2306]

## LAN9500A-ABZJ-TR
designator U?
LAN950x USB 2.0 to 10/100 Ethernet Controller; Value: *
footprint QFN56 P0.5 T5.9X5.9 C8.0X8.0 H1.0 (QFN, 56-Leads, Body 8.00x8.00mm, Pitch 0.50mm, Thermal Pad 5.90x5.90mm)
pins: 1 NPHY_INT, 2 TXN, 3 TXP, 4 VDD33A, 5 RXN, 6 RXP, 7 VDD33A, 8 EXRES, 9 VDD33A, 10 VDDPLL, 11 USBDM, 12 USBDP, 13 TEST2, 14 NC, 15 VDD33A, 16 USBRBIAS, 17 VDDUSBPLL, 18 XI, 19 XO, 20 VBUS_DET, 21 VDDCORE, 22 MDC/GPIO2, 23 MDIO/GPIO1, 24 NRESET, 25 VDD33IO, 26 NFDX_LED/GPIO8, 27 NLNKA_LED/GPIO9, 28 NSPD_LED/GPIO10, 29 EECLK/PWR_SEL, 30 EECS, 31 EEDO/AUTOMDIX_EN, 32 EEDI, 33 TEST3, 34 PHY_SEL, 35 VDD33IO, 36 NTRST/RXD0, 37 TDO/NPHY_RST, 38 TCK/RXD1, 39 TMS/RXD2, 40 TDI/TXD3, 41 RXCLK, 42 RXDV, 43 TXEN, 44 RXER, 45 CRS/GPIO3, 46 COL/GPIO0, 47 TXCLK, 48 VDD33IO, 49 TEST1, 50 VDDCORE, 51 VDD33IO, 52 VDD33IO, 53 TXD3/GPIO7/EEP_SIZE, 54 TXD2/GPIO6/PORT_SWAP, 55 TXD1/GPIO5/RMT_WKP, 56 TXD0/GPIO4/EEP_DISABLE, 57 EPAD-VSS

## MAX232CSE
designator U?, comment MAX232A
+5V-Powered, Multichannel  RS-232 Drivers/Receivers; Value: MAX232A
footprint SO16 P1.27 C4.0x10.3 H2.65 (SOIC, 16-Leads, Body 4.0x10.30mm, Pitch 1.27mm, IPC Medium Density)
pins: 1 C1+, 2 V+, 3 C1-, 4 C2+, 5 C2-, 6 V-, 7 T2OUT, 8 R2IN, 9 R2OUT, 10 T2IN, 11 T1IN, 12 R1OUT, 13 R1IN, 14 T1OUT, 15 GND, 16 VCC

## MAX3221CAE+
designator U?
+3V to +5.5V RS-232  Transceivers with AutoShutdown; Value: MAX3221CAE+
footprint SSOP16 MAXIM P0.65 C5.4x6.4 H2.0 (SSOP16 MAXIM)
pins: 1 ~{EN}, 2 C1+, 3 V+, 4 C1-, 5 C2+, 6 C2-, 7 V-, 8 R1IN, 9 R1OUT, 10 ~{INVALID}, 11 T1IN, 12 FORCEON, 13 T1OUT, 14 GND, 15 VCC, 16 ~{FORCEOFF}

## MAX3250CAI+
designator U?
Dual Differential 16-Bit, 1 MSPS  PulSAR ADC 12.0 mW in QSOP
footprint SSOP28 P1.27 C5.4X10.4 H2.0 (SOP, 28-Leads, Body 10.40x5.40mm, Pitch 0.65mm, IPC Medium Density)
pins: 1 C1–, 2 R1OUT, 3 R2OUT, 4 T1IN, 5 T2IN, 6 NC, 7 NC, 8 C1+, 9 C3+, 10 V+, 11 C3–, 12 C4+, 13 C4–, 14 V–, 15 ISOCOM, 16 T2OUT, 17 T1OUT, 18 R2IN, 19 R1IN, 20 ISOVCC, 21 C2+, 22 NC, 23 NC, 24 ~{SHDN}, 25 ~{FAULT}, 26 GND, 27 C2–, 28 VCC

## MAX3535ECWI+
designator U?
2500Vrms Isolated RS-485/RS-422 Transceivers with +-15kV ESD Protection
footprint SOIC28L 16PIN P1.27 C7.6X18.1H2.65 (SOICL, 28-Leads, 16 Pins, Body 7.60x18.10mm, Pitch 0.65mm)
pins: 1 VCC1, 2 ST1, 3 ST2, 4 GND1, 11 GND2, 12 Z, 13 Y, 14 VCC2, 15 B, 16 A, 17 RO2, 18 ~{SLO}, 25 DI, 26 DE, 27 ~{RE}, 28 RO1

## MAX5888EGK
designator U?
3.3V, 16-Bit, 500Msps High Dynamic  Performance DAC with Differential LVDS Inputs3.3V, 16-Bit, 500Msps High Dynamic  Performance DAC with Differential LVDS Inputs; Value: *
footprint QFN68 P0.5 T5.8X5.8 C10.0X10.0 H1.0 (QFN, 68-Leads, Body 10.00x10.00mm, Pitch 0.50mm, Thermal Pad 5.80x5.80mm, IPC Medium Density)
part A pins: 1 B3P, 2 B3N, 3 B2P, 4 B2N, 5 B1P, 6 B1N, 7 B0P, 8 B0N, 13 CLKP, 14 CLKN, 17 PD, 20 REFIO, 21 FSADJ, 22 DACREF, 26 IOUTN, 27 IOUTP, 39 SEL0, 42 B15P, 43 B15N, 44 B14P, 45 B14N, 46 B13P, 47 B13N, 48 B12P, 49 B12N, 50 B11P, 51 B11N, 52 B10P, 53 B10N, 54 B9P, 55 B9N, 56 B8P, 57 B8N, 58 B7P, 59 B7N, 63 B6P, 64 B6N, 65 B5P, 66 B5N, 67 B4P, 68 B4N
part B pins: 9 DGND, 10 DVDD, 11 VCLK, 12 CLKGND, 15 CLKGND, 16 VCLK, 18 AVDD, 19 AGND, 24 AVDD, 25 AGND, 28 AGND, 29 AVDD, 30 AVDD, 31 AGND, 32 AVDD, 33 AGND, 40 DVDD, 41 DGND, 60 DGND, 61 DVDD, 62 DGND, 69 EP

## MCP3008-I/P
designator U?
2.7V, 8-Channel 10-Bit A/D Converters, SPI; Value: MCP3008-I/P
footprint DIP16 P2.54 W7.62 H5.0 (16-Pin Dual in Line Integrated Circuit 2.54 Pitch, 7.62 Width, Case 20.2x6mm)
pins: 1 CH0, 2 CH1, 3 CH2, 4 CH3, 5 CH4, 6 CH5, 7 CH6, 8 CH7, 9 DGND, 10 ~{CS}/SHDN, 11 DIN, 12 DOUT, 13 CLK, 14 AGND, 15 VREF, 16 VDD

## MCP4921-_/SN
designator U?
12-Bit DAC with SPI Interface; Value: MCP4921-_/SN
footprint SO8 P1.27 C4.0X5.0 H1.75 (8-Pin Small Outline Integrated Circuit 1.27 mm Pitch, IPC Medium Density)
pins: 1 VDD, 2 ~{CS}, 3 SCK, 4 SDI, 5 ~{LDAC}, 6 VREFA, 7 AVSS, 8 VOUTA

## PAM2306
designator U?
DUAL HIGH-EFFICIENCY PWM STEP-DOWN DC-DC CONVERTER; Value: *
footprint WDFN12L  P0.45 T2.5x1.7 C3.0x3.0
pins: 1 VIN2 "Analog Input/Digital Output Pin. AIN6(+) is the positive terminal of the differential analog input pair, AIN6(+)/AIN6(-). This pin can also function as a general-purpose output bit referenced between AVDD and GND.", 2 LX2 "No Connect.", 3 GND "Analog Input/Digital Output Pin. AIN6(-) is the negative terminal of the differential analog input pair, AIN6(+)/AIN6(-). This pin can also function as a general-purpose output bit referenced between AVDD and GND.", 4 FB1 "Serial Clock Input. This serial clock input is for data transfers to and from the ADC. The SCLK has a Schmitttriggered input, making the interface suitable for opto-isolated applications. The serial clock can be continuous (See Datasheet)", 5 NC1 "Serial Clock Input. This serial clock input is for data transfers to and from the ADC. The SCLK has a Schmitttriggered input, making the interface suitable for opto-isolated applications. The serial clock can be continuous (See Datasheet)", 6 EN1 "Serial Clock Input. This serial clock input is for data transfers to and from the ADC. The SCLK has a Schmitttriggered input, making the interface suitable for opto-isolated applications. The serial clock can be continuous (See Datasheet)", 7 VIN1 "Serial Clock Input. This serial clock input is for data transfers to and from the ADC. The SCLK has a Schmitttriggered input, making the interface suitable for opto-isolated applications. The serial clock can be continuous (See Datasheet)", 8 LX1 "Analog Input. AIN1(-) is the negative terminal of the differential analog input pair, AIN1(+)/AIN1(-).", 9 GND "Serial Interface Supply Voltage, 2.7 V to 5.25 V. DVDD is independent of AVDD. Therefore, the serial interface operates at 3 V with AVDD at 5 V or vice versa.", 10 FB2 "Supply Voltage, 2.7 V to 5.25 V.", 11 NC2 "Supply Voltage, 2.7 V to 5.25 V.", 12 EN2 "Supply Voltage, 2.7 V to 5.25 V.", 13 GND "Serial Clock Input. This serial clock input is for data transfers to and from the ADC. The SCLK has a Schmitttriggered input, making the interface suitable for opto-isolated applications. The serial clock can be continuous (See Datasheet)"